# Altium schematic symbol library Diodos.SchLib: 15 symbols
Pins are listed as number, name and electrical type; pins without a type are passive.

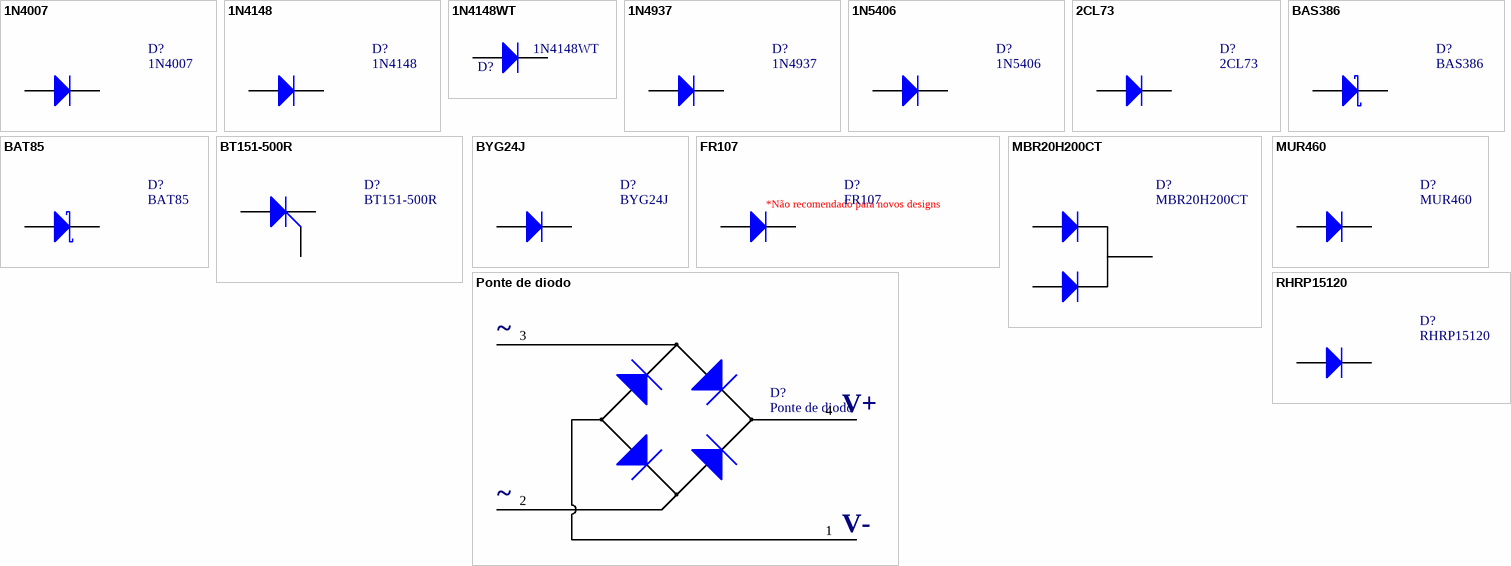
[diagram p0: symbols 1N4007 to RHRP15120]

## 1N4007
designator D?
1N4007 PTH 1.0A RECTIFIER; ComponentLinkDescription1: Datasheet; Montagem: PTH; ComponentLinkURL1: http://www.diodes.com/_files/datasheets/ds28002.pdf; Valor/Partnumber: 1N4007
footprint DO-41 (Diode, Axial; Body 5.2 x 2.7 mm (LxDia. max), Lead Dia. 0.86 mm (max))
pins: 1 A, 2 K

## 1N4148
designator D?
1N4148 PTH High-speed diode; ComponentLinkDescription1: Datasheet; Montagem: PTH; ComponentLinkURL1: http://www.nxp.com/documents/data_sheet/1N4148_1N4448.pdf; Valor/Partnumber: 1N4148
footprint DO-35 (Diode, Axial; Body 3.8 x 1.9 mm (LxDia. max), Lead Dia. 0.53 mm (max))
pins: 1 A, 2 K

## 1N4148WT
designator D?
NAME: *; SpiceOrder1: SpiceOrder 1; SpiceOrder2: SpiceOrder 2; 1N4148WT: 1N4148WT
footprint SOD-523F
pins: A, K C

## 1N4937
designator D?
1N4937 PTH FAST RECTIFIER; ComponentLinkDescription1: Datasheet; Montagem: PTH; ComponentLinkURL1: https://www.fairchildsemi.com/datasheets/1N/1N4935.pdf; Valor/Partnumber: 1N4937
footprint DO-41 (Diode, Axial; Body 5.2 x 2.7 mm (LxDia. max), Lead Dia. 0.86 mm (max))
pins: 1 A, 2 K

## 1N5406
designator D?
1N5406 PTH General Purpose Plastic Rectifier; ComponentLinkDescription1: Datasheet; Montagem: PTH; ComponentLinkURL1: http://www.vishay.com/docs/88516/1n5400.pdf; Valor/Partnumber: 1N5406
footprint DO-41 (Diode, Axial; Body 5.2 x 2.7 mm (LxDia. max), Lead Dia. 0.86 mm (max))
pins: 1 A, 2 K

## 2CL73
designator D?
2CL73 PTH 1.0A RECTIFIER; ComponentLinkDescription1: Datasheet; Montagem: PTH; ComponentLinkURL1: http://www.sipower.us/docs/datasheets/highvoltage/2cl72~2cl73~2cl74.pdf; Valor/Partnumber: 2CL73
footprint DO-310
pins: 1 A, 2 K

## BAS386
designator D?
BAS386 SMD Small Signal Schottky Diode; ComponentLinkDescription1: Datasheet; Montagem: SMD; ComponentLinkURL1: http://www.vishay.com/docs/85505/bas386.pdf; Valor/Partnumber: BAS386
footprint MicroMelf
pins: 1 A, 2 K

## BAT85
designator D?
BAT85 PTH Schottky barrier single diode; ComponentLinkDescription1: Datasheet; Montagem: PTH; ComponentLinkURL1: http://www.nxp.com/documents/data_sheet/BAT85.pdf; Valor/Partnumber: BAT85
footprint DO-35 (Diode, Axial; Body 3.8 x 1.9 mm (LxDia. max), Lead Dia. 0.53 mm (max))
pins: 1 A, 2 K

## BT151-500R
designator D?
Montagem: PTH; ComponentLinkDescription1: Datasheet; ComponentLinkURL1: *; Valor/Partnumber: BT151-500R
footprint TO-220 (TO, Thru-Hole, Vertical, Heatsink Mounted; 3 In-Line Leads; Pitch 2.54 mm)
pins: 1 K, 2 A, 3 G

## BYG24J
designator D?
BYG24J SMD Fast Avalanche Rectifier; ComponentLinkDescription1: Datasheet; Montagem: SMD; ComponentLinkURL1: http://www.vishay.com/docs/88960/byg24d.pdf; Valor/Partnumber: BYG24J
footprint SMA
pins: 1 A, 2 K

## FR107
designator D?
FR107 PTH 1.0A FAST RECOVERY RECTIFIER; ComponentLinkDescription1: Datasheet; Montagem: PTH; ComponentLinkURL1: http://www.diodes.com/_files/datasheets/products_inactive_data/ds26001.pdf; Valor/Partnumber: FR107
footprint DO-41 (Diode, Axial; Body 5.2 x 2.7 mm (LxDia. max), Lead Dia. 0.86 mm (max))
pins: 1 A, 2 K
text: *Não recomendado para novos designs

## MBR20H200CT
designator D?
MBR20H200CT PTH Dual Common Cathode High Voltage Schottky Rectifier; ComponentLinkDescription1: Datasheet; Montagem: PTH; ComponentLinkURL1: http://www.vishay.com/docs/88786/mbr20h20.pdf; Valor/Partnumber: MBR20H200CT
footprint TO-220 (TO, Thru-Hole, Vertical, Heatsink Mounted; 3 In-Line Leads; Pitch 2.54 mm)
pins: 1 A, 2 K, 3 A

## MUR460
designator D?
MBR20H200CT PTH ULTRAFAST RECTIFIERS  4.0 AMPERES, 50−600 VOLTS; ComponentLinkDescription1: Datasheet; Montagem: PTH; ComponentLinkURL1: http://www.onsemi.com/pub_link/Collateral/MUR420-D.PDF; Valor/Partnumber: MUR460
footprint DO-27
pins: 1 A, 2 K

## Ponte de diodo
designator D?
Valor/Partnumber: Ponte de diodo
footprint DiodeBridge
pins: 1, 2, 3, 4
text: ~; V+; V-

## RHRP15120
designator D?
RHRP15120, 15 A, 1200 V, Hyperfast Diode; Montagem: PTH; ComponentLinkDescription1: Datasheet; ComponentLinkURL1: http://www.farnell.com/datasheets/1783739.pdf; Valor/Partnumber: RHRP15120
footprint TO-220_Asmd (TO, Thru-Hole, Vertical, Heatsink Mounted; 3 In-Line Leads (1 Absent); Pitch 2.54 mm)
pins: 1 K, 3 A